# Altium schematic symbol library Cloud_ Buck_Sym.SchLib: 21 symbols
Pins are listed as number, name and electrical type; pins without a type are passive.

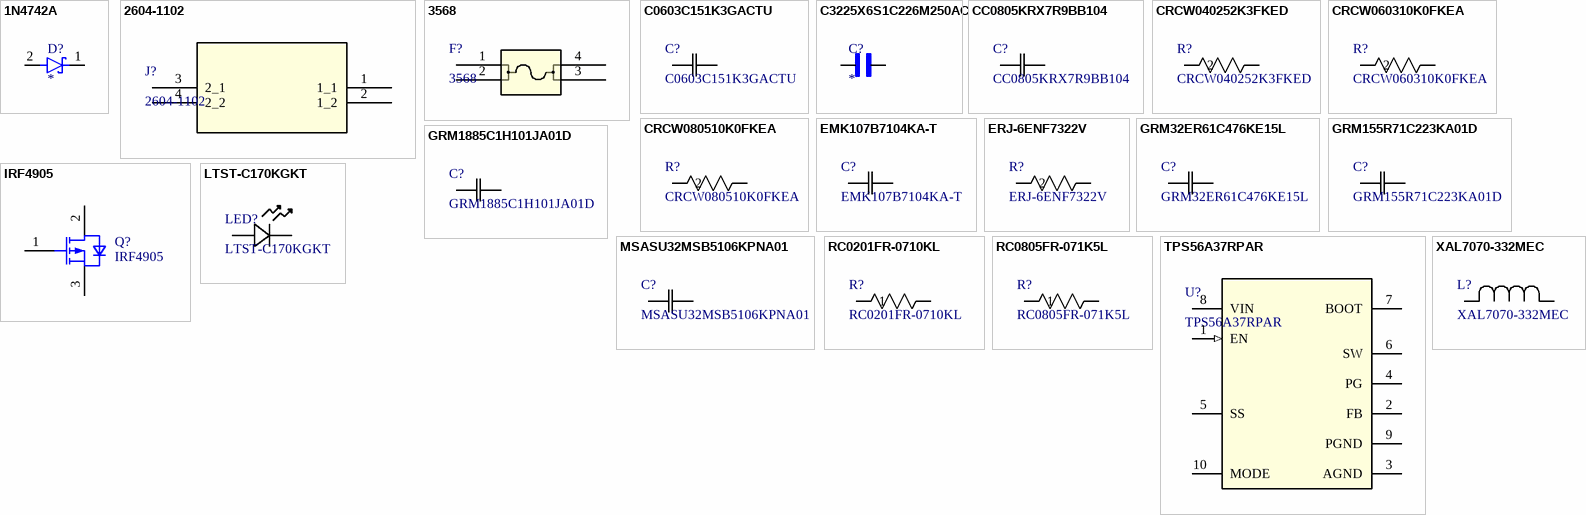
[diagram p0: symbols 1N4742A to XAL7070-332MEC]

## 1N4742A
designator D?
Zener Diode, Single, Two Terminal, 12V V(Z), 5%, DO-204AL; MF: ON Semiconductor; MP: 1N4742A; SnapEDA_Link: https://www.snapeda.com/parts/1N4742A/Onsemi/view-part/?ref=snap; Package: DO-41 Fairchild Semiconductor; Value: *; Check_prices: https://www.snapeda.com/parts/1N4742A/Onsemi/view-part/?ref=eda
footprint DIOAD1036W78L463D237
pins: 1 K, 2 A

## 2604-1102
designator J?
Description; Manufacturer_Name: Wago; Copyright: Copyright (C) 2025 Ultra Librarian. All rights reserved.; Manufacturer_Part_Number: 2604-1102; RefDes: RefDes; Type: Type
footprint CONN2_2604-1102_WAG
pins: 1 1_1, 2 1_2, 3 2_1, 4 2_2

## 3568
designator F?
Description; Manufacturer_Name: Keystone Electronics; Copyright: Copyright (C) 2026 Ultra Librarian. All rights reserved.; Manufacturer_Part_Number: 3568; RefDes: RefDes; Type: Type
footprint 3568_KEY
pins: 1, 2, 3, 4

## C0603C151K3GACTU
designator C?
SMD Comm C0G, Ceramic, 150 pF, 10%, 25 VDC, C0G, SMD, MLCC, Ultra-Stable, Low Loss, Class I, 0603; Manufacturer_Name: Kemet; Copyright: Copyright (C) 2025 Ultra Librarian. All rights reserved.; Manufacturer_Part_Number: C0603C151K3GACTU
footprint CAPC17595_87N_KEM
pins: 1, 2

## C3225X6S1C226M250AC
designator C?
MF: {'manufacturer': u'TDK'}; MP: C3225X6S1C226M250AC; Package: None; Price: None; Value: *; Availability: Unavailable
footprint CAP_C3225X6S1C226M250AC
pins: 1, 2

## CC0805KRX7R9BB104
designator C?
Description; Manufacturer_Name: Yageo; Copyright: Copyright (C) 2025 Ultra Librarian. All rights reserved.; Manufacturer_Part_Number: CC0805KRX7R9BB104
footprint CC0805N_YAG
pins: 1, 2

## CRCW040252K3FKED
designator R?
D10/CRCW0402 100 52K3 1% ET7 e3; Manufacturer_Name: Vishay; Copyright: Copyright (C) 2026 Ultra Librarian. All rights reserved.; Manufacturer_Part_Number: CRCW040252K3FKED
footprint RES_CRCW_0402
pins: 1, 2

## CRCW060310K0FKEA
designator R?
D11/CRCW0603 100 10K 1% ET1 e3; Manufacturer_Name: Vishay; Copyright: Copyright (C) 2025 Ultra Librarian. All rights reserved.; Manufacturer_Part_Number: CRCW060310K0FKEA
footprint RES_CRCW_0603
pins: 1, 2

## CRCW080510K0FKEA
designator R?
D12/CRCW0805 100 10K 1% ET1 e3; Manufacturer_Name: Vishay; Copyright: Copyright (C) 2025 Ultra Librarian. All rights reserved.; Manufacturer_Part_Number: CRCW080510K0FKEA
footprint RES_CRCW_0805
pins: 1, 2

## EMK107B7104KA-T
designator C?
Description; Manufacturer_Name: TAIYO YUDEN; Copyright: Copyright (C) 2025 Ultra Librarian. All rights reserved.; Manufacturer_Part_Number: EMK107B7104KA-T
footprint cap_UMK107ABJ474KA-T_TAY
pins: 1, 2

## ERJ-6ENF7322V
designator R?
Description; Manufacturer_Name: Panasonic; Copyright: Copyright (C) 2026 Ultra Librarian. All rights reserved.; Manufacturer_Part_Number: ERJ-6ENF7322V
footprint RC0805N_PAN
pins: 1, 2

## GRM32ER61C476KE15L
designator C?
Description; Manufacturer_Name: Murata; Copyright: Copyright (C) 2025 Ultra Librarian. All rights reserved.; Manufacturer_Part_Number: GRM32ER61C476KE15L
footprint G-32_MUR
pins: 1, 2

## GRM155R71C223KA01D
designator C?
Description; Manufacturer_Name: Murata; Copyright: Copyright (C) 2026 Ultra Librarian. All rights reserved.; Manufacturer_Part_Number: GRM155R71C223KA01D
footprint G-155_MUR
pins: 1, 2

## GRM1885C1H101JA01D
designator C?
CAP CER 100PF 50V C0G/NP0 0603; Manufacturer_Name: Murata; Copyright: Copyright (C) 2026 Ultra Librarian. All rights reserved.; Manufacturer_Part_Number: GRM1885C1H101JA01D
footprint CAP_188_MUR
pins: 1, 2

## IRF4905
designator Q?
OptiMOS - P2 Power-Transistor, P-channel-Enhancement mode, VDS -30V; Manufacturer: Infineon Technologies; Manufacturer Order NumberManufacturer Order Number: IRF4905; PackageReference: PG-TO220-3-904
footprint IFX-PG-TO220-3-904-1 (TO,flange mount,2.54 mm pitch, 3 pin, 10.16 mm L X 4.57 mm W X 20.56 mm H body)
pins: 1 GATE, 2 DRAIN, 3 SOURCE

## LTST-C170KGKT
designator LED?
Description; Manufacturer_Name: LITE-ON; Copyright: Copyright (C) 2025 Ultra Librarian. All rights reserved.; Manufacturer_Part_Number: LTST-C170KGKT
footprint LED_LTST-C170KGKT_LTO
pins: 1, 2

## MSASU32MSB5106KPNA01
designator C?
Description; Manufacturer_Name: TAIYO YUDEN; Copyright: Copyright (C) 2026 Ultra Librarian. All rights reserved.; Manufacturer_Part_Number: MSASU32MSB5106KPNA01
footprint CAP_MSAS32-M_TAY
pins: 1, 2

## RC0201FR-0710KL
designator R?
Description; Manufacturer_Name: Yageo; Copyright: Copyright (C) 2025 Ultra Librarian. All rights reserved.; Manufacturer_Part_Number: RC0201FR-0710KL
footprint YAG_R0201_YAG
pins: 1, 2

## RC0805FR-071K5L
designator R?
Description; Manufacturer_Name: Yageo; Copyright: Copyright (C) 2025 Ultra Librarian. All rights reserved.; Manufacturer_Part_Number: RC0805FR-071K5L
footprint RC0805N_YAG
pins: 1, 2

## TPS56A37RPAR
designator U?
4.5V to 28V input, 10A synchronous buck converter 10-VQFN-HR -40 to 150; Manufacturer_Name: Texas Instruments; TYPE: TYPE; RefDes: RefDes; Copyright: Copyright (C) 2026 Ultra Librarian. All rights reserved.; Manufacturer_Part_Number: TPS56A37RPAR
footprint RPA0010A-MFG
pins: 1 EN (in), 2 FB, 3 AGND (power), 4 PG (oc), 5 SS, 6 SW, 7 BOOT, 8 VIN (power), 9 PGND (power), 10 MODE

## XAL7070-332MEC
designator L?
Description; Manufacturer_Name: Coilcraft; Type: Fixed Inductors; Copyright: Copyright (C) 2026 Ultra Librarian. All rights reserved.; Manufacturer_Part_Number: XAL7070-332MEC
footprint IND_XAL7070_COC
pins: 1, 2